# EAGLE library part SW-DIP-6 (library Others)
6-Way DIP Switch Created by: Wai Weng
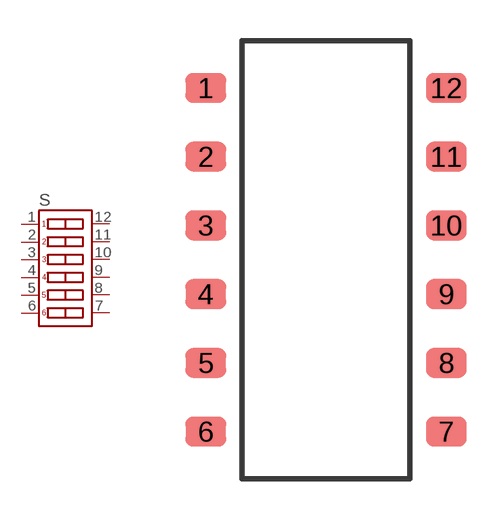
[diagram p6: symbol with the pads of SW-DIP-6-SMD; footprint SW-DIP-6-SMD]

Designator prefix S

## SW-DIP-6_(SMD) (DESC: S DIP Switch 6 Ways; VALUE: 6 Ways)  [SW-DIP-6-SMD]
1  P$1
2  P$2
3  P$3
4  P$4
5  P$5
6  P$6
7  P$7
8  P$8
9  P$9
10  P$10
11  P$11
12  P$12

## Footprint SW-DIP-6-SMD (pad centres in mm)
6-Way DIP Switch (Surface Mount) Created by: Wai Weng
smd 1.499 x 1.092: 1 -4.445,6.35; 2 -4.445,3.81; 3 -4.445,1.27; 4 -4.445,-1.27; 5 -4.445,-3.81; 6 -4.445,-6.35; 7 4.445,-6.35; 8 4.445,-3.81; 9 4.445,-1.27; 10 4.445,1.27; 11 4.445,3.81; 12 4.445,6.35